# Altium integrated library Analog Devices Temperature Sensors.IntLib: 271 symbols (part 12 of 14)
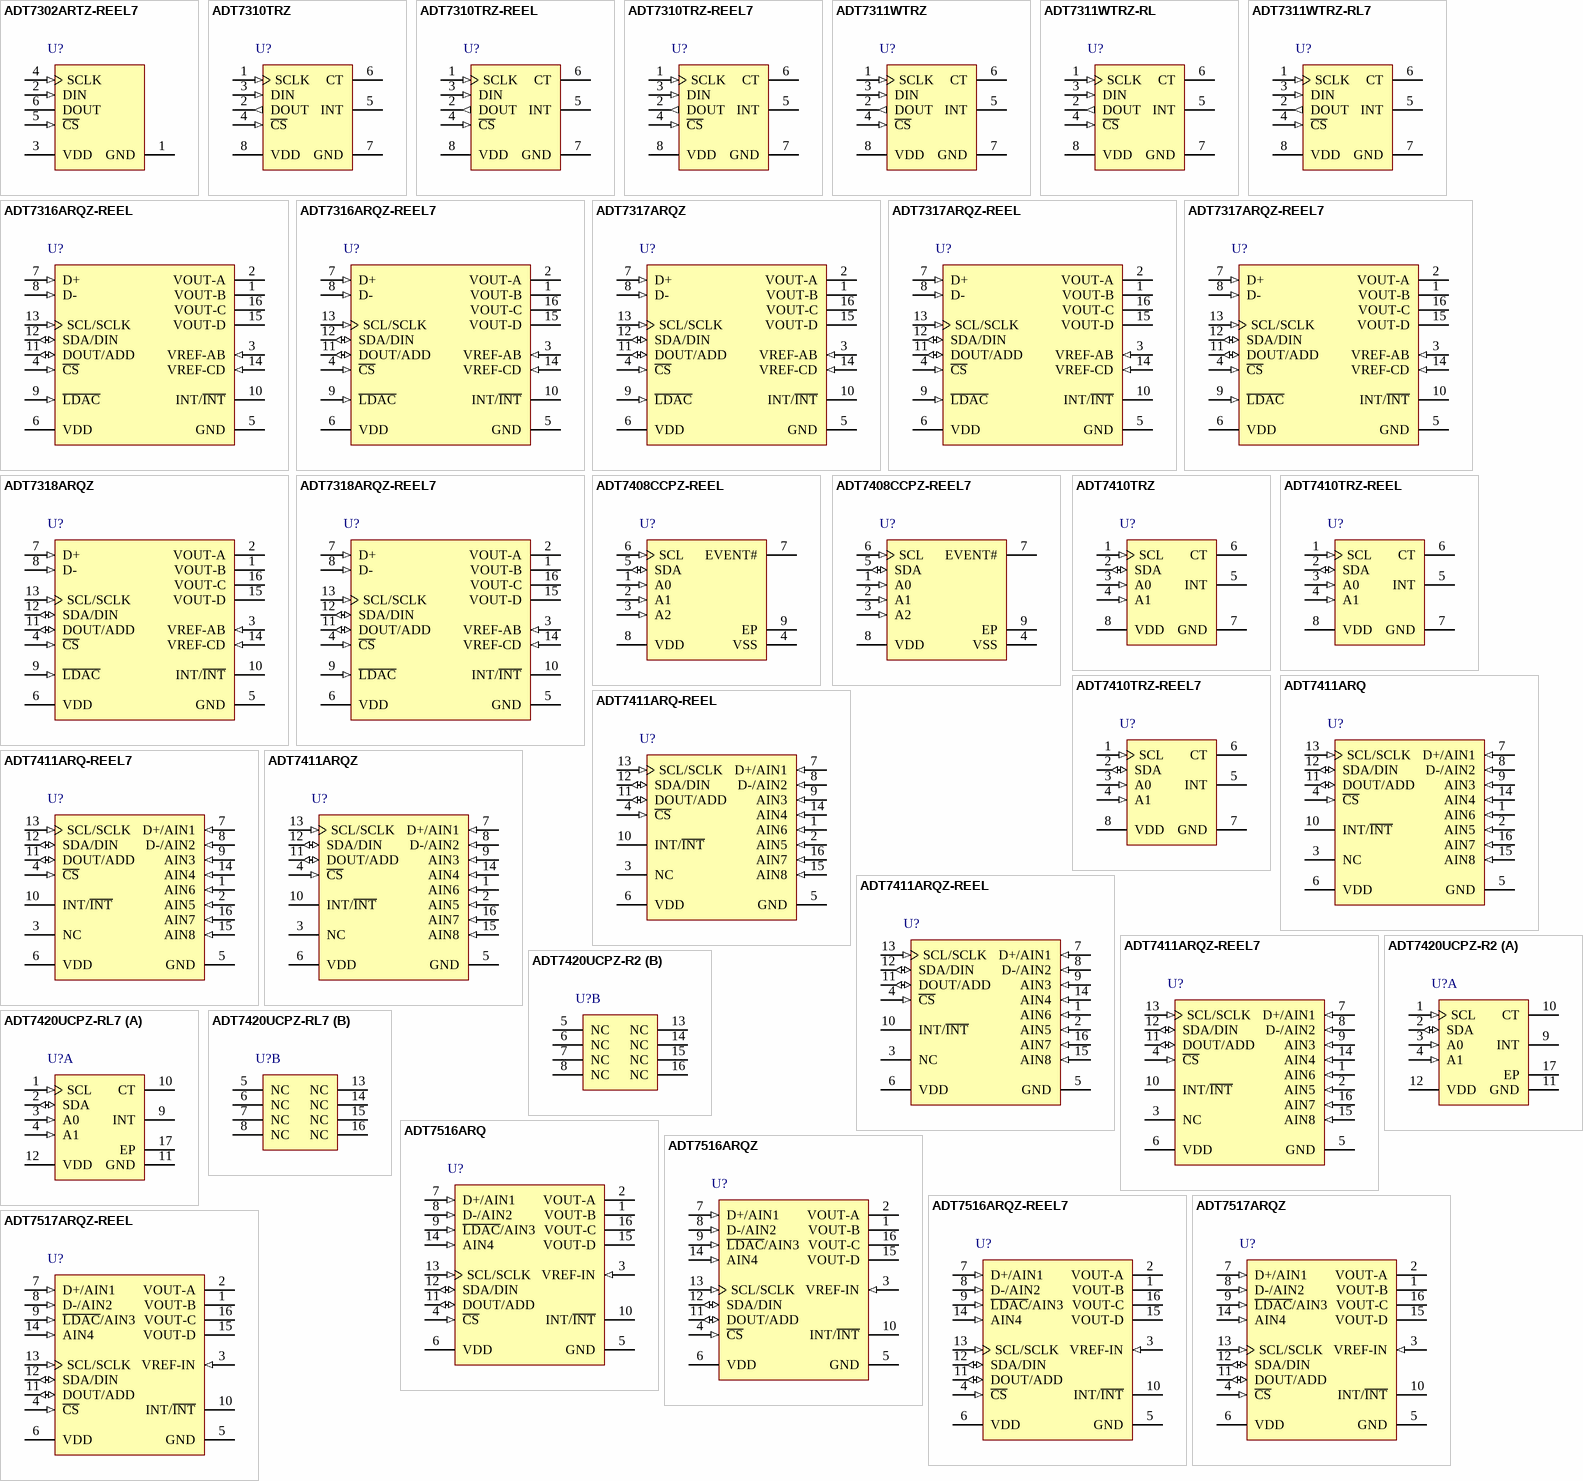
[diagram p18: symbols ADT7302ARTZ-REEL7 to ADT7517ARQZ-REEL]

## ADT7516ARQZ
designator U?
SPI / I2C Compatible Temperature Sensor with 4-Channel ADC and Quad Voltage Output, 2.7 to 5.5 V Supply, Industrial, 16-pin SOP (RQ-16), Tube; Manufacturer: Analog Devices; PartNumber: ADT7516ARQZ; #_ADC_channels: 4; DatasheetVersion: Rev. B; PackageVersion: 08/2005; PackageReference: RQ-16; PackageDescription: 16-Pin Shrink Small Outline Package, Body 4.9 x 3.9 mm, Pitch 0.64 mm; Supplier 1: Digi-Key; Supplier Part Number 1: ADT7516ARQZ-ND; Supplier 2: Farnell; Supplier Part Number 2: 1438683; Supplier 3: Newark; Supplier Part Number 3: 59K3114; Supplier 4: Mouser; Supplier Part Number 4: 584-ADT7516ARQZ; #_DAC_channels: 4; Packing: Tube; Supply Voltage Range: 2.7 to 5.5 V; Mounting Technology: Surface Mount; Code_JEDEC: MO-137-AB; ComponentLink1Description: Manufacturer URL; ComponentLink1URL: http://www.analog.com/en/index.html; ComponentLink2Description: Datasheet; ComponentLink2URL: http://www.analog.com/static/imported-files/data_sheets/ADT7516_7517_7519.pdf; ComponentLink3Description: Package Specification; ComponentLink3URL: http://www.analog.com/static/imported-files/packages/5595549651201762937RQ_16.pdf; ComponentLink4Description: Product URL; ComponentLink4URL: http://www.analog.com/en/mems-sensors/digital-temperature-sensors/adt7516/products/product.html
footprint ADI-RQ-16_N (SOP, 16-Leads, Body 4.9x3.9mm, Pitch 0.64mm, IPC Medium Density)
footprint ADI-RQ-16_L (SOP, 16-Leads, Body 4.9x3.9mm, Pitch 0.64mm, IPC High Density)
footprint ADI-RQ-16_M (SOP, 16-Leads, Body 4.9x3.9mm, Pitch 0.64mm, IPC Low Density)
pins: 1 VOUT-B (hiz) "Buffered Analog Output Voltage from DAC B. The output amplifier has rail-to-rail operation.", 2 VOUT-A (hiz) "Buffered Analog Output Voltage from DAC A. The output amplifier has rail-to-rail operation.", 3 VREF-IN (in) "Reference Input Pin for All Four DACs. This input is buffered and has an input range from 1 V to VDD.", 4 ~{CS} (in) "SPI Active Low Control Input. This is the frame synchronization signal for the input data. When C\S\ goes low, it enables the input register, and data is transferred in on the rising edges and out on the falling edges of the (See Datasheet)", 5 GND (power) "Ground Reference Point. Ground reference point for all circuitry on the part. Analog and digital ground.", 6 VDD (power) "Positive Supply Voltage, 2.7 V to 5.5 V. The supply should be decoupled to ground.", 7 D+/AIN1 (in), 8 D-/AIN2 (in), 9 ~{LDAC}/AIN3 (in), 10 INT/~{INT} (oc), 11 DOUT/ADD (io), 12 SDA/DIN (io), 13 SCL/SCLK (in), 14 AIN4 (in) "Analog Input. Single-ended analog input channel. Input range is 0 V to 2.28 V or 0 V to VDD.", 15 VOUT-D (hiz) "Buffered Analog Output Voltage from DAC D. The output amplifier has rail-to-rail operation.", 16 VOUT-C (hiz) "Buffered Analog Output Voltage from DAC C. The output amplifier has rail-to-rail operation."

## ADT7516ARQZ-REEL7
designator U?
SPI / I2C Compatible Temperature Sensor with 4-Channel ADC and Quad Voltage Output, 2.7 to 5.5 V Supply, Industrial, 16-pin SOP (RQ-16), Reel; Manufacturer: Analog Devices; PartNumber: ADT7516ARQZ-REEL7; #_ADC_channels: 4; DatasheetVersion: Rev. B; PackageVersion: 08/2005; PackageReference: RQ-16; PackageDescription: 16-Pin Shrink Small Outline Package, Body 4.9 x 3.9 mm, Pitch 0.64 mm; Supplier 1: Digi-Key; Supplier Part Number 1: ADT7516ARQZ-REEL7-ND; Supplier 2: Newark; Supplier Part Number 2: 59K3116; Supplier 3: Mouser; Supplier Part Number 3: 584-ADT7516ARQZ-R7; #_DAC_channels: 4; Packing: Reel; Supply Voltage Range: 2.7 to 5.5 V; Mounting Technology: Surface Mount; Code_JEDEC: MO-137-AB; ComponentLink1Description: Manufacturer URL; ComponentLink1URL: http://www.analog.com/en/index.html; ComponentLink2Description: Datasheet; ComponentLink2URL: http://www.analog.com/static/imported-files/data_sheets/ADT7516_7517_7519.pdf; ComponentLink3Description: Package Specification; ComponentLink3URL: http://www.analog.com/static/imported-files/packages/5595549651201762937RQ_16.pdf; ComponentLink4Description: Product URL; ComponentLink4URL: http://www.analog.com/en/mems-sensors/digital-temperature-sensors/adt7516/products/product.html
footprint ADI-RQ-16_N (SOP, 16-Leads, Body 4.9x3.9mm, Pitch 0.64mm, IPC Medium Density)
footprint ADI-RQ-16_L (SOP, 16-Leads, Body 4.9x3.9mm, Pitch 0.64mm, IPC High Density)
footprint ADI-RQ-16_M (SOP, 16-Leads, Body 4.9x3.9mm, Pitch 0.64mm, IPC Low Density)
pins: 1 VOUT-B (hiz) "Buffered Analog Output Voltage from DAC B. The output amplifier has rail-to-rail operation.", 2 VOUT-A (hiz) "Buffered Analog Output Voltage from DAC A. The output amplifier has rail-to-rail operation.", 3 VREF-IN (in) "Reference Input Pin for All Four DACs. This input is buffered and has an input range from 1 V to VDD.", 4 ~{CS} (in) "SPI Active Low Control Input. This is the frame synchronization signal for the input data. When C\S\ goes low, it enables the input register, and data is transferred in on the rising edges and out on the falling edges of the (See Datasheet)", 5 GND (power) "Ground Reference Point. Ground reference point for all circuitry on the part. Analog and digital ground.", 6 VDD (power) "Positive Supply Voltage, 2.7 V to 5.5 V. The supply should be decoupled to ground.", 7 D+/AIN1 (in), 8 D-/AIN2 (in), 9 ~{LDAC}/AIN3 (in), 10 INT/~{INT} (oc), 11 DOUT/ADD (io), 12 SDA/DIN (io), 13 SCL/SCLK (in), 14 AIN4 (in) "Analog Input. Single-ended analog input channel. Input range is 0 V to 2.28 V or 0 V to VDD.", 15 VOUT-D (hiz) "Buffered Analog Output Voltage from DAC D. The output amplifier has rail-to-rail operation.", 16 VOUT-C (hiz) "Buffered Analog Output Voltage from DAC C. The output amplifier has rail-to-rail operation."

## ADT7517ARQZ
designator U?
SPI / I2C Compatible Temperature Sensor with 4-Channel ADC and Quad Voltage Output, 2.7 to 5.5 V Supply, Industrial, 16-pin SOP (RQ-16), Tube; Manufacturer: Analog Devices; PartNumber: ADT7517ARQZ; #_ADC_channels: 4; DatasheetVersion: Rev. B; PackageVersion: 08/2005; PackageReference: RQ-16; PackageDescription: 16-Pin Shrink Small Outline Package, Body 4.9 x 3.9 mm, Pitch 0.64 mm; Supplier 1: Digi-Key; Supplier Part Number 1: ADT7517ARQZ-ND; Supplier 2: Mouser; Supplier Part Number 2: N/A; #_DAC_channels: 4; Packing: Tube; Supply Voltage Range: 2.7 to 5.5 V; Mounting Technology: Surface Mount; Code_JEDEC: MO-137-AB; ComponentLink1Description: Manufacturer URL; ComponentLink1URL: http://www.analog.com/en/index.html; ComponentLink2Description: Datasheet; ComponentLink2URL: http://www.analog.com/static/imported-files/data_sheets/ADT7516_7517_7519.pdf; ComponentLink3Description: Package Specification; ComponentLink3URL: http://www.analog.com/static/imported-files/packages/5595549651201762937RQ_16.pdf; ComponentLink4Description: Product URL; ComponentLink4URL: http://www.analog.com/en/mems-sensors/digital-temperature-sensors/adt7517/products/product.html
footprint ADI-RQ-16_N (SOP, 16-Leads, Body 4.9x3.9mm, Pitch 0.64mm, IPC Medium Density)
footprint ADI-RQ-16_L (SOP, 16-Leads, Body 4.9x3.9mm, Pitch 0.64mm, IPC High Density)
footprint ADI-RQ-16_M (SOP, 16-Leads, Body 4.9x3.9mm, Pitch 0.64mm, IPC Low Density)
pins: 1 VOUT-B (hiz) "Buffered Analog Output Voltage from DAC B. The output amplifier has rail-to-rail operation.", 2 VOUT-A (hiz) "Buffered Analog Output Voltage from DAC A. The output amplifier has rail-to-rail operation.", 3 VREF-IN (in) "Reference Input Pin for All Four DACs. This input is buffered and has an input range from 1 V to VDD.", 4 ~{CS} (in) "SPI Active Low Control Input. This is the frame synchronization signal for the input data. When C\S\ goes low, it enables the input register, and data is transferred in on the rising edges and out on the falling edges of the (See Datasheet)", 5 GND (power) "Ground Reference Point. Ground reference point for all circuitry on the part. Analog and digital ground.", 6 VDD (power) "Positive Supply Voltage, 2.7 V to 5.5 V. The supply should be decoupled to ground.", 7 D+/AIN1 (in), 8 D-/AIN2 (in), 9 ~{LDAC}/AIN3 (in), 10 INT/~{INT} (oc), 11 DOUT/ADD (io), 12 SDA/DIN (io), 13 SCL/SCLK (in), 14 AIN4 (in) "Analog Input. Single-ended analog input channel. Input range is 0 V to 2.28 V or 0 V to VDD.", 15 VOUT-D (hiz) "Buffered Analog Output Voltage from DAC D. The output amplifier has rail-to-rail operation.", 16 VOUT-C (hiz) "Buffered Analog Output Voltage from DAC C. The output amplifier has rail-to-rail operation."

## ADT7517ARQZ-REEL
designator U?
SPI / I2C Compatible Temperature Sensor with 4-Channel ADC and Quad Voltage Output, 2.7 to 5.5 V Supply, Industrial, 16-pin SOP (RQ-16), Reel; Manufacturer: Analog Devices; PartNumber: ADT7517ARQZ-REEL; #_ADC_channels: 4; DatasheetVersion: Rev. B; PackageVersion: 08/2005; PackageReference: RQ-16; PackageDescription: 16-Pin Shrink Small Outline Package, Body 4.9 x 3.9 mm, Pitch 0.64 mm; Supplier 1: Digi-Key; Supplier Part Number 1: ADT7517ARQZ-REEL-ND; Supplier 2: Mouser; Supplier Part Number 2: N/A; #_DAC_channels: 4; Packing: Reel; Supply Voltage Range: 2.7 to 5.5 V; Mounting Technology: Surface Mount; Code_JEDEC: MO-137-AB; ComponentLink1Description: Manufacturer URL; ComponentLink1URL: http://www.analog.com/en/index.html; ComponentLink2Description: Datasheet; ComponentLink2URL: http://www.analog.com/static/imported-files/data_sheets/ADT7516_7517_7519.pdf; ComponentLink3Description: Package Specification; ComponentLink3URL: http://www.analog.com/static/imported-files/packages/5595549651201762937RQ_16.pdf; ComponentLink4Description: Product URL; ComponentLink4URL: http://www.analog.com/en/mems-sensors/digital-temperature-sensors/adt7517/products/product.html
footprint ADI-RQ-16_N (SOP, 16-Leads, Body 4.9x3.9mm, Pitch 0.64mm, IPC Medium Density)
footprint ADI-RQ-16_L (SOP, 16-Leads, Body 4.9x3.9mm, Pitch 0.64mm, IPC High Density)
footprint ADI-RQ-16_M (SOP, 16-Leads, Body 4.9x3.9mm, Pitch 0.64mm, IPC Low Density)
pins: 1 VOUT-B (hiz) "Buffered Analog Output Voltage from DAC B. The output amplifier has rail-to-rail operation.", 2 VOUT-A (hiz) "Buffered Analog Output Voltage from DAC A. The output amplifier has rail-to-rail operation.", 3 VREF-IN (in) "Reference Input Pin for All Four DACs. This input is buffered and has an input range from 1 V to VDD.", 4 ~{CS} (in) "SPI Active Low Control Input. This is the frame synchronization signal for the input data. When C\S\ goes low, it enables the input register, and data is transferred in on the rising edges and out on the falling edges of the (See Datasheet)", 5 GND (power) "Ground Reference Point. Ground reference point for all circuitry on the part. Analog and digital ground.", 6 VDD (power) "Positive Supply Voltage, 2.7 V to 5.5 V. The supply should be decoupled to ground.", 7 D+/AIN1 (in), 8 D-/AIN2 (in), 9 ~{LDAC}/AIN3 (in), 10 INT/~{INT} (oc), 11 DOUT/ADD (io), 12 SDA/DIN (io), 13 SCL/SCLK (in), 14 AIN4 (in) "Analog Input. Single-ended analog input channel. Input range is 0 V to 2.28 V or 0 V to VDD.", 15 VOUT-D (hiz) "Buffered Analog Output Voltage from DAC D. The output amplifier has rail-to-rail operation.", 16 VOUT-C (hiz) "Buffered Analog Output Voltage from DAC C. The output amplifier has rail-to-rail operation."

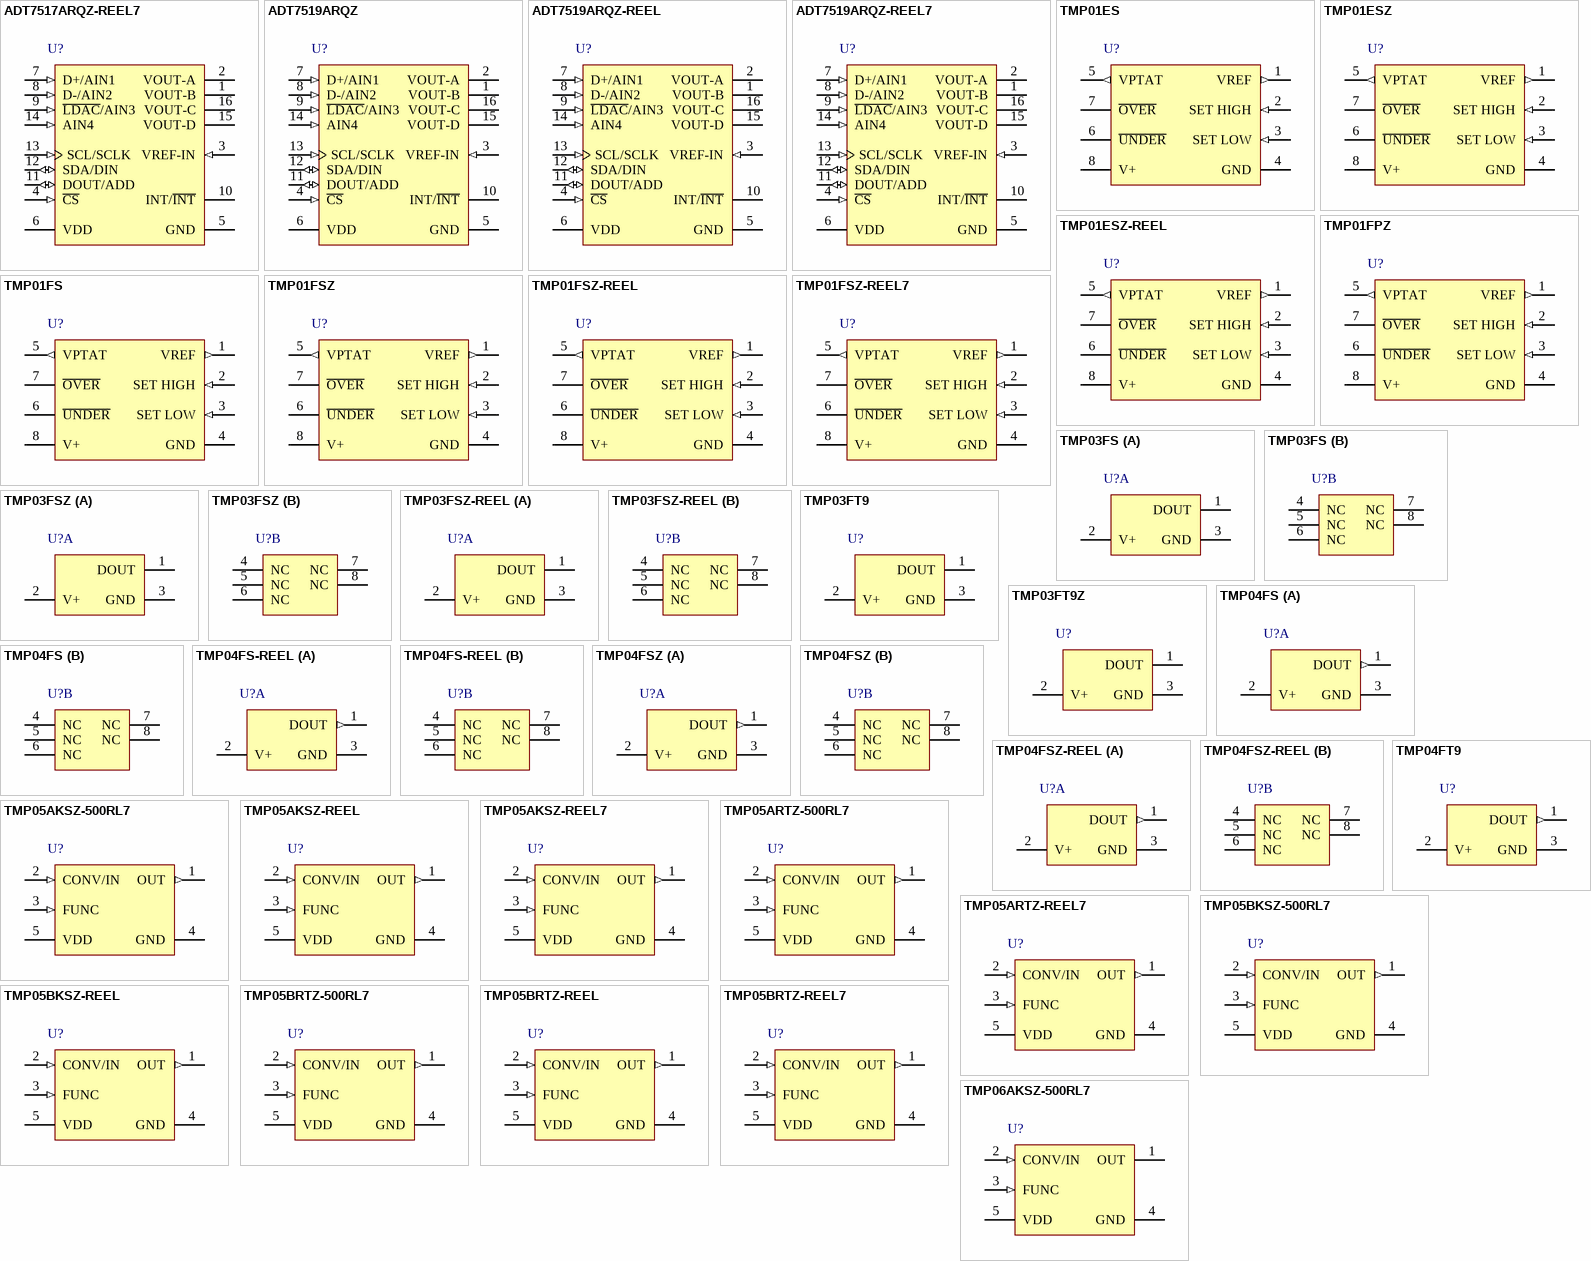
[diagram p6: symbols ADT7517ARQZ-REEL7 to TMP06AKSZ-500RL7]

## ADT7517ARQZ-REEL7
designator U?
SPI / I2C Compatible Temperature Sensor with 4-Channel ADC and Quad Voltage Output, 2.7 to 5.5 V Supply, Industrial, 16-pin SOP (RQ-16), Reel; Manufacturer: Analog Devices; PartNumber: ADT7517ARQZ-REEL7; #_ADC_channels: 4; DatasheetVersion: Rev. B; PackageVersion: 08/2005; PackageReference: RQ-16; PackageDescription: 16-Pin Shrink Small Outline Package, Body 4.9 x 3.9 mm, Pitch 0.64 mm; Supplier 1: Digi-Key; Supplier Part Number 1: ADT7517ARQZ-REEL7-ND; Supplier 2: Mouser; Supplier Part Number 2: N/A; #_DAC_channels: 4; Packing: Reel; Supply Voltage Range: 2.7 to 5.5 V; Mounting Technology: Surface Mount; Code_JEDEC: MO-137-AB; ComponentLink1Description: Manufacturer URL; ComponentLink1URL: http://www.analog.com/en/index.html; ComponentLink2Description: Datasheet; ComponentLink2URL: http://www.analog.com/static/imported-files/data_sheets/ADT7516_7517_7519.pdf; ComponentLink3Description: Package Specification; ComponentLink3URL: http://www.analog.com/static/imported-files/packages/5595549651201762937RQ_16.pdf; ComponentLink4Description: Product URL; ComponentLink4URL: http://www.analog.com/en/mems-sensors/digital-temperature-sensors/adt7517/products/product.html
footprint ADI-RQ-16_N (SOP, 16-Leads, Body 4.9x3.9mm, Pitch 0.64mm, IPC Medium Density)
footprint ADI-RQ-16_L (SOP, 16-Leads, Body 4.9x3.9mm, Pitch 0.64mm, IPC High Density)
footprint ADI-RQ-16_M (SOP, 16-Leads, Body 4.9x3.9mm, Pitch 0.64mm, IPC Low Density)
pins: 1 VOUT-B (hiz) "Buffered Analog Output Voltage from DAC B. The output amplifier has rail-to-rail operation.", 2 VOUT-A (hiz) "Buffered Analog Output Voltage from DAC A. The output amplifier has rail-to-rail operation.", 3 VREF-IN (in) "Reference Input Pin for All Four DACs. This input is buffered and has an input range from 1 V to VDD.", 4 ~{CS} (in) "SPI Active Low Control Input. This is the frame synchronization signal for the input data. When C\S\ goes low, it enables the input register, and data is transferred in on the rising edges and out on the falling edges of the (See Datasheet)", 5 GND (power) "Ground Reference Point. Ground reference point for all circuitry on the part. Analog and digital ground.", 6 VDD (power) "Positive Supply Voltage, 2.7 V to 5.5 V. The supply should be decoupled to ground.", 7 D+/AIN1 (in), 8 D-/AIN2 (in), 9 ~{LDAC}/AIN3 (in), 10 INT/~{INT} (oc), 11 DOUT/ADD (io), 12 SDA/DIN (io), 13 SCL/SCLK (in), 14 AIN4 (in) "Analog Input. Single-ended analog input channel. Input range is 0 V to 2.28 V or 0 V to VDD.", 15 VOUT-D (hiz) "Buffered Analog Output Voltage from DAC D. The output amplifier has rail-to-rail operation.", 16 VOUT-C (hiz) "Buffered Analog Output Voltage from DAC C. The output amplifier has rail-to-rail operation."

## ADT7519ARQZ
designator U?
SPI / I2C Compatible Temperature Sensor with 4-Channel ADC and Quad Voltage Output, 2.7 to 5.5 V Supply, Industrial, 16-pin SOP (RQ-16), Tube; Manufacturer: Analog Devices; PartNumber: ADT7519ARQZ; #_ADC_channels: 4; DatasheetVersion: Rev. B; PackageVersion: 08/2005; PackageReference: RQ-16; PackageDescription: 16-Pin Shrink Small Outline Package, Body 4.9 x 3.9 mm, Pitch 0.64 mm; Supplier 1: Digi-Key; Supplier Part Number 1: ADT7519ARQZ-ND; Supplier 2: Mouser; Supplier Part Number 2: N/A; #_DAC_channels: 4; Packing: Tube; Supply Voltage Range: 2.7 to 5.5 V; Mounting Technology: Surface Mount; Code_JEDEC: MO-137-AB; ComponentLink1Description: Manufacturer URL; ComponentLink1URL: http://www.analog.com/en/index.html; ComponentLink2Description: Datasheet; ComponentLink2URL: http://www.analog.com/static/imported-files/data_sheets/ADT7516_7517_7519.pdf; ComponentLink3Description: Package Specification; ComponentLink3URL: http://www.analog.com/static/imported-files/packages/5595549651201762937RQ_16.pdf; ComponentLink4Description: Product URL; ComponentLink4URL: http://www.analog.com/en/mems-sensors/digital-temperature-sensors/adt7519/products/product.html
footprint ADI-RQ-16_N (SOP, 16-Leads, Body 4.9x3.9mm, Pitch 0.64mm, IPC Medium Density)
footprint ADI-RQ-16_L (SOP, 16-Leads, Body 4.9x3.9mm, Pitch 0.64mm, IPC High Density)
footprint ADI-RQ-16_M (SOP, 16-Leads, Body 4.9x3.9mm, Pitch 0.64mm, IPC Low Density)
pins: 1 VOUT-B (hiz) "Buffered Analog Output Voltage from DAC B. The output amplifier has rail-to-rail operation.", 2 VOUT-A (hiz) "Buffered Analog Output Voltage from DAC A. The output amplifier has rail-to-rail operation.", 3 VREF-IN (in) "Reference Input Pin for All Four DACs. This input is buffered and has an input range from 1 V to VDD.", 4 ~{CS} (in) "SPI Active Low Control Input. This is the frame synchronization signal for the input data. When C\S\ goes low, it enables the input register, and data is transferred in on the rising edges and out on the falling edges of the (See Datasheet)", 5 GND (power) "Ground Reference Point. Ground reference point for all circuitry on the part. Analog and digital ground.", 6 VDD (power) "Positive Supply Voltage, 2.7 V to 5.5 V. The supply should be decoupled to ground.", 7 D+/AIN1 (in), 8 D-/AIN2 (in), 9 ~{LDAC}/AIN3 (in), 10 INT/~{INT} (oc), 11 DOUT/ADD (io), 12 SDA/DIN (io), 13 SCL/SCLK (in), 14 AIN4 (in) "Analog Input. Single-ended analog input channel. Input range is 0 V to 2.28 V or 0 V to VDD.", 15 VOUT-D (hiz) "Buffered Analog Output Voltage from DAC D. The output amplifier has rail-to-rail operation.", 16 VOUT-C (hiz) "Buffered Analog Output Voltage from DAC C. The output amplifier has rail-to-rail operation."

## ADT7519ARQZ-REEL
designator U?
SPI / I2C Compatible Temperature Sensor with 4-Channel ADC and Quad Voltage Output, 2.7 to 5.5 V Supply, Industrial, 16-pin SOP (RQ-16), Reel; Manufacturer: Analog Devices; PartNumber: ADT7519ARQZ-REEL; #_ADC_channels: 4; DatasheetVersion: Rev. B; PackageVersion: 08/2005; PackageReference: RQ-16; PackageDescription: 16-Pin Shrink Small Outline Package, Body 4.9 x 3.9 mm, Pitch 0.64 mm; Supplier 1: Digi-Key; Supplier Part Number 1: ADT7519ARQZ-REEL-ND; Supplier 2: Mouser; Supplier Part Number 2: N/A; #_DAC_channels: 4; Packing: Reel; Supply Voltage Range: 2.7 to 5.5 V; Mounting Technology: Surface Mount; Code_JEDEC: MO-137-AB; ComponentLink1Description: Manufacturer URL; ComponentLink1URL: http://www.analog.com/en/index.html; ComponentLink2Description: Datasheet; ComponentLink2URL: http://www.analog.com/static/imported-files/data_sheets/ADT7516_7517_7519.pdf; ComponentLink3Description: Package Specification; ComponentLink3URL: http://www.analog.com/static/imported-files/packages/5595549651201762937RQ_16.pdf; ComponentLink4Description: Product URL; ComponentLink4URL: http://www.analog.com/en/mems-sensors/digital-temperature-sensors/adt7519/products/product.html
footprint ADI-RQ-16_N (SOP, 16-Leads, Body 4.9x3.9mm, Pitch 0.64mm, IPC Medium Density)
footprint ADI-RQ-16_L (SOP, 16-Leads, Body 4.9x3.9mm, Pitch 0.64mm, IPC High Density)
footprint ADI-RQ-16_M (SOP, 16-Leads, Body 4.9x3.9mm, Pitch 0.64mm, IPC Low Density)
pins: 1 VOUT-B (hiz) "Buffered Analog Output Voltage from DAC B. The output amplifier has rail-to-rail operation.", 2 VOUT-A (hiz) "Buffered Analog Output Voltage from DAC A. The output amplifier has rail-to-rail operation.", 3 VREF-IN (in) "Reference Input Pin for All Four DACs. This input is buffered and has an input range from 1 V to VDD.", 4 ~{CS} (in) "SPI Active Low Control Input. This is the frame synchronization signal for the input data. When C\S\ goes low, it enables the input register, and data is transferred in on the rising edges and out on the falling edges of the (See Datasheet)", 5 GND (power) "Ground Reference Point. Ground reference point for all circuitry on the part. Analog and digital ground.", 6 VDD (power) "Positive Supply Voltage, 2.7 V to 5.5 V. The supply should be decoupled to ground.", 7 D+/AIN1 (in), 8 D-/AIN2 (in), 9 ~{LDAC}/AIN3 (in), 10 INT/~{INT} (oc), 11 DOUT/ADD (io), 12 SDA/DIN (io), 13 SCL/SCLK (in), 14 AIN4 (in) "Analog Input. Single-ended analog input channel. Input range is 0 V to 2.28 V or 0 V to VDD.", 15 VOUT-D (hiz) "Buffered Analog Output Voltage from DAC D. The output amplifier has rail-to-rail operation.", 16 VOUT-C (hiz) "Buffered Analog Output Voltage from DAC C. The output amplifier has rail-to-rail operation."

## ADT7519ARQZ-REEL7
designator U?
SPI / I2C Compatible Temperature Sensor with 4-Channel ADC and Quad Voltage Output, 2.7 to 5.5 V Supply, Industrial, 16-pin SOP (RQ-16), Reel; Manufacturer: Analog Devices; PartNumber: ADT7519ARQZ-REEL7; #_ADC_channels: 4; DatasheetVersion: Rev. B; PackageVersion: 08/2005; PackageReference: RQ-16; PackageDescription: 16-Pin Shrink Small Outline Package, Body 4.9 x 3.9 mm, Pitch 0.64 mm; Supplier 1: Digi-Key; Supplier Part Number 1: ADT7519ARQZ-REEL7-ND; Supplier 2: Mouser; Supplier Part Number 2: N/A; #_DAC_channels: 4; Packing: Reel; Supply Voltage Range: 2.7 to 5.5 V; Mounting Technology: Surface Mount; Code_JEDEC: MO-137-AB; ComponentLink1Description: Manufacturer URL; ComponentLink1URL: http://www.analog.com/en/index.html; ComponentLink2Description: Datasheet; ComponentLink2URL: http://www.analog.com/static/imported-files/data_sheets/ADT7516_7517_7519.pdf; ComponentLink3Description: Package Specification; ComponentLink3URL: http://www.analog.com/static/imported-files/packages/5595549651201762937RQ_16.pdf; ComponentLink4Description: Product URL; ComponentLink4URL: http://www.analog.com/en/mems-sensors/digital-temperature-sensors/adt7519/products/product.html
footprint ADI-RQ-16_N (SOP, 16-Leads, Body 4.9x3.9mm, Pitch 0.64mm, IPC Medium Density)
footprint ADI-RQ-16_L (SOP, 16-Leads, Body 4.9x3.9mm, Pitch 0.64mm, IPC High Density)
footprint ADI-RQ-16_M (SOP, 16-Leads, Body 4.9x3.9mm, Pitch 0.64mm, IPC Low Density)
pins: 1 VOUT-B (hiz) "Buffered Analog Output Voltage from DAC B. The output amplifier has rail-to-rail operation.", 2 VOUT-A (hiz) "Buffered Analog Output Voltage from DAC A. The output amplifier has rail-to-rail operation.", 3 VREF-IN (in) "Reference Input Pin for All Four DACs. This input is buffered and has an input range from 1 V to VDD.", 4 ~{CS} (in) "SPI Active Low Control Input. This is the frame synchronization signal for the input data. When C\S\ goes low, it enables the input register, and data is transferred in on the rising edges and out on the falling edges of the (See Datasheet)", 5 GND (power) "Ground Reference Point. Ground reference point for all circuitry on the part. Analog and digital ground.", 6 VDD (power) "Positive Supply Voltage, 2.7 V to 5.5 V. The supply should be decoupled to ground.", 7 D+/AIN1 (in), 8 D-/AIN2 (in), 9 ~{LDAC}/AIN3 (in), 10 INT/~{INT} (oc), 11 DOUT/ADD (io), 12 SDA/DIN (io), 13 SCL/SCLK (in), 14 AIN4 (in) "Analog Input. Single-ended analog input channel. Input range is 0 V to 2.28 V or 0 V to VDD.", 15 VOUT-D (hiz) "Buffered Analog Output Voltage from DAC D. The output amplifier has rail-to-rail operation.", 16 VOUT-C (hiz) "Buffered Analog Output Voltage from DAC C. The output amplifier has rail-to-rail operation."

## TMP01ES
designator U?
Low Power, Programmable Temperature Controller, 4.5 to 13.2 V Supply, Industrial, 8-pin SOIC (R-8), Tube; Manufacturer: Analog Devices; PartNumber: TMP01ES; Sensor Output: +5 mV/degreesK, Thermostatic Switch; Temp Range(s): -40 to +85 degC; DatasheetVersion: Rev. E; PackageVersion: 060506-A, 06/2006; PackageReference: R-8; PackageDescription: 8-Pin Standard Small Outline Package, Body 4.9 x 3.9 mm, Pitch 1.27 mm; Supplier 1: Digi-Key; Supplier Part Number 1: TMP01ES-ND; Supplier 2: Newark; Supplier Part Number 2: 05F9079; Supplier 3: Mouser; Supplier Part Number 3: 584-TMP01ES; Packing: Tube; Supply Voltage Range: 4.5 to 13.2 V; Mounting Technology: Surface Mount; Code_JEDEC: MS-012-AA; ComponentLink1Description: Manufacturer URL; ComponentLink1URL: http://www.analog.com/en/index.html; ComponentLink2Description: Datasheet; ComponentLink2URL: http://www.analog.com/static/imported-files/data_sheets/TMP01.pdf; ComponentLink3Description: Package Specification; ComponentLink3URL: http://www.analog.com/static/imported-files/packages/PKG_PDF/SOIC_Narrow%20(R)/R_8.pdf; ComponentLink4Description: Product URL; ComponentLink4URL: http://www.analog.com/en/mems-sensors/digital-temperature-sensors/tmp01/products/product.html
footprint ADI-R-8_N (SOIC, 8-Leads, Body 4.9x3.9mm, Pitch 1.27mm, IPC Medium Density)
footprint ADI-R-8_L (SOIC, 8-Leads, Body 4.9x3.9mm, Pitch 1.27mm, IPC High Density)
footprint ADI-R-8_M (SOIC, 8-Leads, Body 4.9x3.9mm, Pitch 1.27mm, IPC Low Density)
pins: 1 VREF (out), 2 SET HIGH (in), 3 SET LOW (in), 4 GND (power), 5 VPTAT (out), 6 ~{UNDER} (oc), 7 ~{OVER} (oc), 8 V+ (power)

## TMP01ESZ
designator U?
Low Power, Programmable Temperature Controller, 4.5 to 13.2 V Supply, Industrial, 8-pin SOIC (R-8), Tube; Manufacturer: Analog Devices; PartNumber: TMP01ESZ; Sensor Output: +5 mV/degreesK, Thermostatic Switch; Temp Range(s): -40 to +85 degC; DatasheetVersion: Rev. E; PackageVersion: 060506-A, 06/2006; PackageReference: R-8; PackageDescription: 8-Pin Standard Small Outline Package, Body 4.9 x 3.9 mm, Pitch 1.27 mm; Supplier 1: Digi-Key; Supplier Part Number 1: TMP01ESZ-ND; Supplier 2: Farnell; Supplier Part Number 2: 2305760; Supplier 3: Newark; Supplier Part Number 3: 13M3224; Supplier 4: Mouser; Supplier Part Number 4: 584-TMP01ESZ; Packing: Tube; Supply Voltage Range: 4.5 to 13.2 V; Mounting Technology: Surface Mount; Code_JEDEC: MS-012-AA; ComponentLink1Description: Manufacturer URL; ComponentLink1URL: http://www.analog.com/en/index.html; ComponentLink2Description: Datasheet; ComponentLink2URL: http://www.analog.com/static/imported-files/data_sheets/TMP01.pdf; ComponentLink3Description: Package Specification; ComponentLink3URL: http://www.analog.com/static/imported-files/packages/PKG_PDF/SOIC_Narrow%20(R)/R_8.pdf; ComponentLink4Description: Product URL; ComponentLink4URL: http://www.analog.com/en/mems-sensors/digital-temperature-sensors/tmp01/products/product.html
footprint ADI-R-8_N (SOIC, 8-Leads, Body 4.9x3.9mm, Pitch 1.27mm, IPC Medium Density)
footprint ADI-R-8_L (SOIC, 8-Leads, Body 4.9x3.9mm, Pitch 1.27mm, IPC High Density)
footprint ADI-R-8_M (SOIC, 8-Leads, Body 4.9x3.9mm, Pitch 1.27mm, IPC Low Density)
pins: 1 VREF (out), 2 SET HIGH (in), 3 SET LOW (in), 4 GND (power), 5 VPTAT (out), 6 ~{UNDER} (oc), 7 ~{OVER} (oc), 8 V+ (power)

## TMP01ESZ-REEL
designator U?
Low Power, Programmable Temperature Controller, 4.5 to 13.2 V Supply, Industrial, 8-pin SOIC (R-8), Reel; Manufacturer: Analog Devices; PartNumber: TMP01ESZ-REEL; Sensor Output: +5 mV/degreesK, Thermostatic Switch; Temp Range(s): -40 to +85 degC; DatasheetVersion: Rev. E; PackageVersion: 060506-A, 06/2006; PackageReference: R-8; PackageDescription: 8-Pin Standard Small Outline Package, Body 4.9 x 3.9 mm, Pitch 1.27 mm; Supplier 1: Digi-Key; Supplier Part Number 1: TMP01ESZ-REEL-ND; Supplier 2: Newark; Supplier Part Number 2: 13M3225; Supplier 3: Mouser; Supplier Part Number 3: 584-TMP01ESZ-R; Packing: Reel; Supply Voltage Range: 4.5 to 13.2 V; Mounting Technology: Surface Mount; Code_JEDEC: MS-012-AA; ComponentLink1Description: Manufacturer URL; ComponentLink1URL: http://www.analog.com/en/index.html; ComponentLink2Description: Datasheet; ComponentLink2URL: http://www.analog.com/static/imported-files/data_sheets/TMP01.pdf; ComponentLink3Description: Package Specification; ComponentLink3URL: http://www.analog.com/static/imported-files/packages/PKG_PDF/SOIC_Narrow%20(R)/R_8.pdf; ComponentLink4Description: Product URL; ComponentLink4URL: http://www.analog.com/en/mems-sensors/digital-temperature-sensors/tmp01/products/product.html
footprint ADI-R-8_N (SOIC, 8-Leads, Body 4.9x3.9mm, Pitch 1.27mm, IPC Medium Density)
footprint ADI-R-8_L (SOIC, 8-Leads, Body 4.9x3.9mm, Pitch 1.27mm, IPC High Density)
footprint ADI-R-8_M (SOIC, 8-Leads, Body 4.9x3.9mm, Pitch 1.27mm, IPC Low Density)
pins: 1 VREF (out), 2 SET HIGH (in), 3 SET LOW (in), 4 GND (power), 5 VPTAT (out), 6 ~{UNDER} (oc), 7 ~{OVER} (oc), 8 V+ (power)

## TMP01FPZ
designator U?
Low Power, Programmable Temperature Controller, 4.5 to 13.2 V Supply, Industrial, 8-pin DIP (N-8), Tube; Manufacturer: Analog Devices; PartNumber: TMP01FPZ; Sensor Output: +5 mV/degreesK, Thermostatic Switch; Temp Range(s): -40 to +85 degC; DatasheetVersion: Rev. E; PackageVersion: 070606-A, 07/2006; PackageReference: N-8; PackageDescription: 8-Pin Plastic Dual In-Line Package, Row spacing 7.62 mm, Pitch 2.54 mm; Supplier 1: Digi-Key; Supplier Part Number 1: TMP01FPZ-ND; Supplier 2: Farnell; Supplier Part Number 2: 1079406; Supplier 3: Newark; Supplier Part Number 3: 59K9131; Supplier 4: Mouser; Supplier Part Number 4: 584-TMP01FPZ; Packing: Tube; Supply Voltage Range: 4.5 to 13.2 V; Mounting Technology: Through Hole; Code_JEDEC: MS-001; ComponentLink1Description: Manufacturer URL; ComponentLink1URL: http://www.analog.com/en/index.html; ComponentLink2Description: Datasheet; ComponentLink2URL: http://www.analog.com/static/imported-files/data_sheets/TMP01.pdf; ComponentLink3Description: Package Specification; ComponentLink3URL: http:/www.analog.com/static/imported-files/packages/PKG_PDF/PDIP(N)/N_8.pdf; ComponentLink4Description: Product URL; ComponentLink4URL: http://www.analog.com/en/mems-sensors/digital-temperature-sensors/tmp01/products/product.html
footprint ADI-N-8 (DIP, 8-Leads, Body 9.59x6.6mm, Pitch 2.54mm)
pins: 1 VREF (out), 2 SET HIGH (in), 3 SET LOW (in), 4 GND (power), 5 VPTAT (out), 6 ~{UNDER} (oc), 7 ~{OVER} (oc), 8 V+ (power)

## TMP01FS
designator U?
Low Power, Programmable Temperature Controller, 4.5 to 13.2 V Supply, Industrial, 8-pin SOIC (R-8), Tube; Manufacturer: Analog Devices; PartNumber: TMP01FS; Sensor Output: +5 mV/degreesK, Thermostatic Switch; Temp Range(s): -40 to +85 degC; DatasheetVersion: Rev. E; PackageVersion: 060506-A, 06/2006; PackageReference: R-8; PackageDescription: 8-Pin Standard Small Outline Package, Body 4.9 x 3.9 mm, Pitch 1.27 mm; Supplier 1: Digi-Key; Supplier Part Number 1: TMP01FS-ND; Supplier 2: Mouser; Supplier Part Number 2: 584-TMP01FS; Packing: Tube; Supply Voltage Range: 4.5 to 13.2 V; Mounting Technology: Surface Mount; Code_JEDEC: MS-012-AA; ComponentLink1Description: Manufacturer URL; ComponentLink1URL: http://www.analog.com/en/index.html; ComponentLink2Description: Datasheet; ComponentLink2URL: http://www.analog.com/static/imported-files/data_sheets/TMP01.pdf; ComponentLink3Description: Package Specification; ComponentLink3URL: http://www.analog.com/static/imported-files/packages/PKG_PDF/SOIC_Narrow%20(R)/R_8.pdf; ComponentLink4Description: Product URL; ComponentLink4URL: http://www.analog.com/en/mems-sensors/digital-temperature-sensors/tmp01/products/product.html
footprint ADI-R-8_N (SOIC, 8-Leads, Body 4.9x3.9mm, Pitch 1.27mm, IPC Medium Density)
footprint ADI-R-8_L (SOIC, 8-Leads, Body 4.9x3.9mm, Pitch 1.27mm, IPC High Density)
footprint ADI-R-8_M (SOIC, 8-Leads, Body 4.9x3.9mm, Pitch 1.27mm, IPC Low Density)
pins: 1 VREF (out), 2 SET HIGH (in), 3 SET LOW (in), 4 GND (power), 5 VPTAT (out), 6 ~{UNDER} (oc), 7 ~{OVER} (oc), 8 V+ (power)

## TMP01FSZ
designator U?
Low Power, Programmable Temperature Controller, 4.5 to 13.2 V Supply, Industrial, 8-pin SOIC (R-8), Tube; Manufacturer: Analog Devices; PartNumber: TMP01FSZ; Sensor Output: +5 mV/degreesK, Thermostatic Switch; Temp Range(s): -40 to +85 degC; DatasheetVersion: Rev. E; PackageVersion: 060506-A, 06/2006; PackageReference: R-8; PackageDescription: 8-Pin Standard Small Outline Package, Body 4.9 x 3.9 mm, Pitch 1.27 mm; Supplier 1: Digi-Key; Supplier Part Number 1: TMP01FSZ-ND; Supplier 2: Farnell; Supplier Part Number 2: 1079393; Supplier 3: Newark; Supplier Part Number 3: 96K2115; Supplier 4: Mouser; Supplier Part Number 4: 584-TMP01FSZ; Packing: Tube; Supply Voltage Range: 4.5 to 13.2 V; Mounting Technology: Surface Mount; Code_JEDEC: MS-012-AA; ComponentLink1Description: Manufacturer URL; ComponentLink1URL: http://www.analog.com/en/index.html; ComponentLink2Description: Datasheet; ComponentLink2URL: http://www.analog.com/static/imported-files/data_sheets/TMP01.pdf; ComponentLink3Description: Package Specification; ComponentLink3URL: http://www.analog.com/static/imported-files/packages/PKG_PDF/SOIC_Narrow%20(R)/R_8.pdf; ComponentLink4Description: Product URL; ComponentLink4URL: http://www.analog.com/en/mems-sensors/digital-temperature-sensors/tmp01/products/product.html
footprint ADI-R-8_N (SOIC, 8-Leads, Body 4.9x3.9mm, Pitch 1.27mm, IPC Medium Density)
footprint ADI-R-8_L (SOIC, 8-Leads, Body 4.9x3.9mm, Pitch 1.27mm, IPC High Density)
footprint ADI-R-8_M (SOIC, 8-Leads, Body 4.9x3.9mm, Pitch 1.27mm, IPC Low Density)
pins: 1 VREF (out), 2 SET HIGH (in), 3 SET LOW (in), 4 GND (power), 5 VPTAT (out), 6 ~{UNDER} (oc), 7 ~{OVER} (oc), 8 V+ (power)

## TMP01FSZ-REEL
designator U?
Low Power, Programmable Temperature Controller, 4.5 to 13.2 V Supply, Industrial, 8-pin SOIC (R-8), Reel; Manufacturer: Analog Devices; PartNumber: TMP01FSZ-REEL; Sensor Output: +5 mV/degreesK, Thermostatic Switch; Temp Range(s): -40 to +85 degC; DatasheetVersion: Rev. E; PackageVersion: 060506-A, 06/2006; PackageReference: R-8; PackageDescription: 8-Pin Standard Small Outline Package, Body 4.9 x 3.9 mm, Pitch 1.27 mm; Supplier 1: Digi-Key; Supplier Part Number 1: TMP01FSZ-REEL-ND; Supplier 2: Newark; Supplier Part Number 2: 13M3226; Supplier 3: Mouser; Supplier Part Number 3: 584-TMP01FSZ-R; Packing: Reel; Supply Voltage Range: 4.5 to 13.2 V; Mounting Technology: Surface Mount; Code_JEDEC: MS-012-AA; ComponentLink1Description: Manufacturer URL; ComponentLink1URL: http://www.analog.com/en/index.html; ComponentLink2Description: Datasheet; ComponentLink2URL: http://www.analog.com/static/imported-files/data_sheets/TMP01.pdf; ComponentLink3Description: Package Specification; ComponentLink3URL: http://www.analog.com/static/imported-files/packages/PKG_PDF/SOIC_Narrow%20(R)/R_8.pdf; ComponentLink4Description: Product URL; ComponentLink4URL: http://www.analog.com/en/mems-sensors/digital-temperature-sensors/tmp01/products/product.html
footprint ADI-R-8_N (SOIC, 8-Leads, Body 4.9x3.9mm, Pitch 1.27mm, IPC Medium Density)
footprint ADI-R-8_L (SOIC, 8-Leads, Body 4.9x3.9mm, Pitch 1.27mm, IPC High Density)
footprint ADI-R-8_M (SOIC, 8-Leads, Body 4.9x3.9mm, Pitch 1.27mm, IPC Low Density)
pins: 1 VREF (out), 2 SET HIGH (in), 3 SET LOW (in), 4 GND (power), 5 VPTAT (out), 6 ~{UNDER} (oc), 7 ~{OVER} (oc), 8 V+ (power)

## TMP01FSZ-REEL7
designator U?
Low Power, Programmable Temperature Controller, 4.5 to 13.2 V Supply, Industrial, 8-pin SOIC (R-8), Reel; Manufacturer: Analog Devices; PartNumber: TMP01FSZ-REEL7; Sensor Output: +5 mV/degreesK, Thermostatic Switch; Temp Range(s): -40 to +85 degC; DatasheetVersion: Rev. E; PackageVersion: 060506-A, 06/2006; PackageReference: R-8; PackageDescription: 8-Pin Standard Small Outline Package, Body 4.9 x 3.9 mm, Pitch 1.27 mm; Supplier 1: Digi-Key; Supplier Part Number 1: TMP01FSZ-REEL7TR-ND; Supplier 2: Digi-Key; Supplier Part Number 2: TMP01FSZ-REEL7CT-ND; Supplier 3: Digi-Key; Supplier Part Number 3: TMP01FSZ-REEL7DKR-ND; Supplier 4: Newark; Supplier Part Number 4: 13M3227; Supplier 5: Mouser; Supplier Part Number 5: 584-TMP01FSZ-R7; Packing: Reel; Supply Voltage Range: 4.5 to 13.2 V; Mounting Technology: Surface Mount; Code_JEDEC: MS-012-AA; ComponentLink1Description: Manufacturer URL; ComponentLink1URL: http://www.analog.com/en/index.html; ComponentLink2Description: Datasheet; ComponentLink2URL: http://www.analog.com/static/imported-files/data_sheets/TMP01.pdf; ComponentLink3Description: Package Specification; ComponentLink3URL: http://www.analog.com/static/imported-files/packages/PKG_PDF/SOIC_Narrow%20(R)/R_8.pdf; ComponentLink4Description: Product URL; ComponentLink4URL: http://www.analog.com/en/mems-sensors/digital-temperature-sensors/tmp01/products/product.html
footprint ADI-R-8_N (SOIC, 8-Leads, Body 4.9x3.9mm, Pitch 1.27mm, IPC Medium Density)
footprint ADI-R-8_L (SOIC, 8-Leads, Body 4.9x3.9mm, Pitch 1.27mm, IPC High Density)
footprint ADI-R-8_M (SOIC, 8-Leads, Body 4.9x3.9mm, Pitch 1.27mm, IPC Low Density)
pins: 1 VREF (out), 2 SET HIGH (in), 3 SET LOW (in), 4 GND (power), 5 VPTAT (out), 6 ~{UNDER} (oc), 7 ~{OVER} (oc), 8 V+ (power)

## TMP03FS
designator U?
Serial Digital Output Thermometers, 4.5 to 7 V Supply, 8-pin SOIC (R-8), Tube; Manufacturer: Analog Devices; PartNumber: TMP03FS; DatasheetVersion: Rev. A; PackageVersion: 060506-A, 06/2006; PackageReference: R-8; PackageDescription: 8-Pin Standard Small Outline Package, Body 4.9 x 3.9 mm, Pitch 1.27 mm; Supplier 1: Digi-Key; Supplier Part Number 1: TMP03FS-ND; Supplier 2: Mouser; Supplier Part Number 2: 584-TMP03FS; Packing: Tube; Supply Voltage Range: 4.5 to 7 V; Mounting Technology: Surface Mount; Code_JEDEC: MS-012-AA; ComponentLink1Description: Manufacturer URL; ComponentLink1URL: http://www.analog.com/en/index.html; ComponentLink2Description: Datasheet; ComponentLink2URL: http://www.analog.com/static/imported-files/data_sheets/TMP03_04.pdf; ComponentLink3Description: Package Specification; ComponentLink3URL: http://www.analog.com/static/imported-files/packages/PKG_PDF/SOIC_Narrow%20(R)/R_8.pdf; ComponentLink4Description: Product URL; ComponentLink4URL: http://www.analog.com/en/mems-sensors/digital-temperature-sensors/tmp03/products/product.html
footprint ADI-R-8_N (SOIC, 8-Leads, Body 4.9x3.9mm, Pitch 1.27mm, IPC Medium Density)
footprint ADI-R-8_L (SOIC, 8-Leads, Body 4.9x3.9mm, Pitch 1.27mm, IPC High Density)
footprint ADI-R-8_M (SOIC, 8-Leads, Body 4.9x3.9mm, Pitch 1.27mm, IPC Low Density)
part A pins: 1 DOUT (oc), 2 V+ (power), 3 GND (power)
part B pins: 4 NC "NO CONNECT", 5 NC "NO CONNECT", 6 NC "NO CONNECT", 7 NC "NO CONNECT", 8 NC "NO CONNECT"

## TMP03FSZ
designator U?
Serial Digital Output Thermometers, 4.5 to 7 V Supply, 8-pin SOIC (R-8), Tube; Manufacturer: Analog Devices; PartNumber: TMP03FSZ; DatasheetVersion: Rev. A; PackageVersion: 060506-A, 06/2006; PackageReference: R-8; PackageDescription: 8-Pin Standard Small Outline Package, Body 4.9 x 3.9 mm, Pitch 1.27 mm; Supplier 1: Digi-Key; Supplier Part Number 1: TMP03FSZ-ND; Supplier 2: Farnell; Supplier Part Number 2: 2377126; Supplier 3: Newark; Supplier Part Number 3: 23X9246; Supplier 4: Newark; Supplier Part Number 4: 59K9132; Supplier 5: Mouser; Supplier Part Number 5: 584-TMP03FSZ; Packing: Tube; Supply Voltage Range: 4.5 to 7 V; Mounting Technology: Surface Mount; Code_JEDEC: MS-012-AA; ComponentLink1Description: Manufacturer URL; ComponentLink1URL: http://www.analog.com/en/index.html; ComponentLink2Description: Datasheet; ComponentLink2URL: http://www.analog.com/static/imported-files/data_sheets/TMP03_04.pdf; ComponentLink3Description: Package Specification; ComponentLink3URL: http://www.analog.com/static/imported-files/packages/PKG_PDF/SOIC_Narrow%20(R)/R_8.pdf; ComponentLink4Description: Product URL; ComponentLink4URL: http://www.analog.com/en/mems-sensors/digital-temperature-sensors/tmp03/products/product.html
footprint ADI-R-8_N (SOIC, 8-Leads, Body 4.9x3.9mm, Pitch 1.27mm, IPC Medium Density)
footprint ADI-R-8_L (SOIC, 8-Leads, Body 4.9x3.9mm, Pitch 1.27mm, IPC High Density)
footprint ADI-R-8_M (SOIC, 8-Leads, Body 4.9x3.9mm, Pitch 1.27mm, IPC Low Density)
part A pins: 1 DOUT (oc), 2 V+ (power), 3 GND (power)
part B pins: 4 NC "NO CONNECT", 5 NC "NO CONNECT", 6 NC "NO CONNECT", 7 NC "NO CONNECT", 8 NC "NO CONNECT"

## TMP03FSZ-REEL
designator U?
Serial Digital Output Thermometers, 4.5 to 7 V Supply, 8-pin SOIC (R-8), Reel; Manufacturer: Analog Devices; PartNumber: TMP03FSZ-REEL; DatasheetVersion: Rev. A; PackageVersion: 060506-A, 06/2006; PackageReference: R-8; PackageDescription: 8-Pin Standard Small Outline Package, Body 4.9 x 3.9 mm, Pitch 1.27 mm; Supplier 1: Digi-Key; Supplier Part Number 1: TMP03FSZ-REEL-ND; Supplier 2: Newark; Supplier Part Number 2: 59K9133; Supplier 3: Mouser; Supplier Part Number 3: 584-TMP03FSZ-R; Packing: Reel; Supply Voltage Range: 4.5 to 7 V; Mounting Technology: Surface Mount; Code_JEDEC: MS-012-AA; ComponentLink1Description: Manufacturer URL; ComponentLink1URL: http://www.analog.com/en/index.html; ComponentLink2Description: Datasheet; ComponentLink2URL: http://www.analog.com/static/imported-files/data_sheets/TMP03_04.pdf; ComponentLink3Description: Package Specification; ComponentLink3URL: http://www.analog.com/static/imported-files/packages/PKG_PDF/SOIC_Narrow%20(R)/R_8.pdf; ComponentLink4Description: Product URL; ComponentLink4URL: http://www.analog.com/en/mems-sensors/digital-temperature-sensors/tmp03/products/product.html
footprint ADI-R-8_N (SOIC, 8-Leads, Body 4.9x3.9mm, Pitch 1.27mm, IPC Medium Density)
footprint ADI-R-8_L (SOIC, 8-Leads, Body 4.9x3.9mm, Pitch 1.27mm, IPC High Density)
footprint ADI-R-8_M (SOIC, 8-Leads, Body 4.9x3.9mm, Pitch 1.27mm, IPC Low Density)
part A pins: 1 DOUT (oc), 2 V+ (power), 3 GND (power)
part B pins: 4 NC "NO CONNECT", 5 NC "NO CONNECT", 6 NC "NO CONNECT", 7 NC "NO CONNECT", 8 NC "NO CONNECT"

## TMP03FT9
designator U?
Serial Digital Output Thermometers, 4.5 to 7 V Supply, Industrial, 3-pin TO92 (T-3), Tray; Manufacturer: Analog Devices; PartNumber: TMP03FT9; DatasheetVersion: Rev. A; PackageVersion: 042208-A, 04/2008; PackageReference: T-3; PackageDescription: 3-Pin Plastic Header-Style Package, 1.27 mm Pitch; Supplier 1: Digi-Key; Supplier Part Number 1: TMP03FT9-ND; Supplier 2: Newark; Supplier Part Number 2: 13B4830; Supplier 3: Mouser; Supplier Part Number 3: 584-TMP03FT9; Packing: Tray; Supply Voltage Range: 4.5 to 7 V; Mounting Technology: Through Hole; Code_JEDEC: TO-226-AA; ComponentLink1Description: Manufacturer URL; ComponentLink1URL: http://www.analog.com/en/index.html; ComponentLink2Description: Datasheet; ComponentLink2URL: http://www.analog.com/static/imported-files/data_sheets/TMP03_04.pdf; ComponentLink3Description: Package Specification; ComponentLink3URL: http://www.analog.com/static/imported-files/packages/PKG_PDF/TO-92(T)/T_3.pdf; ComponentLink4Description: Product URL; ComponentLink4URL: http://www.analog.com/en/mems-sensors/digital-temperature-sensors/tmp03/products/product.html
footprint ADI-T-3 (TO, Flat Index; 3 In-Line, Axial Leads; Body Dia. 5.1mm; Leads 0.48 x 0.48 mm (max))
pins: 1 DOUT (oc), 2 V+ (power), 3 GND (power)

## TMP03FT9Z
designator U?
Serial Digital Output Thermometers, 4.5 to 7 V Supply, Industrial, 3-pin TO92 (T-3), Tray; Manufacturer: Analog Devices; PartNumber: TMP03FT9Z; DatasheetVersion: Rev. A; PackageVersion: 042208-A, 04/2008; PackageReference: T-3; PackageDescription: 3-Pin Plastic Header-Style Package, 1.27 mm Pitch; Supplier 1: Digi-Key; Supplier Part Number 1: TMP03FT9Z-ND; Supplier 2: Farnell; Supplier Part Number 2: 2305761; Supplier 3: Newark; Supplier Part Number 3: 28M4413; Supplier 4: Mouser; Supplier Part Number 4: 584-TMP03FT9Z; Packing: Tray; Supply Voltage Range: 4.5 to 7 V; Mounting Technology: Through Hole; Code_JEDEC: TO-226-AA; ComponentLink1Description: Manufacturer URL; ComponentLink1URL: http://www.analog.com/en/index.html; ComponentLink2Description: Datasheet; ComponentLink2URL: http://www.analog.com/static/imported-files/data_sheets/TMP03_04.pdf; ComponentLink3Description: Package Specification; ComponentLink3URL: http://www.analog.com/static/imported-files/packages/PKG_PDF/TO-92(T)/T_3.pdf; ComponentLink4Description: Product URL; ComponentLink4URL: http://www.analog.com/en/mems-sensors/digital-temperature-sensors/tmp03/products/product.html
footprint ADI-T-3 (TO, Flat Index; 3 In-Line, Axial Leads; Body Dia. 5.1mm; Leads 0.48 x 0.48 mm (max))
pins: 1 DOUT (oc), 2 V+ (power), 3 GND (power)

## TMP04FS
designator U?
Serial Digital Output Thermometers, 4.5 to 7 V Supply, 8-pin SOIC (R-8), Tube; Manufacturer: Analog Devices; PartNumber: TMP04FS; DatasheetVersion: Rev. A; PackageVersion: 060506-A, 06/2006; PackageReference: R-8; PackageDescription: 8-Pin Standard Small Outline Package, Body 4.9 x 3.9 mm, Pitch 1.27 mm; Supplier 1: Digi-Key; Supplier Part Number 1: TMP04FS-ND; Supplier 2: Mouser; Supplier Part Number 2: 584-TMP04FS; Packing: Tube; Supply Voltage Range: 4.5 to 7 V; Mounting Technology: Surface Mount; Code_JEDEC: MS-012-AA; ComponentLink1Description: Manufacturer URL; ComponentLink1URL: http://www.analog.com/en/index.html; ComponentLink2Description: Datasheet; ComponentLink2URL: http://www.analog.com/static/imported-files/data_sheets/TMP03_04.pdf; ComponentLink3Description: Package Specification; ComponentLink3URL: http://www.analog.com/static/imported-files/packages/PKG_PDF/SOIC_Narrow%20(R)/R_8.pdf; ComponentLink4Description: Product URL; ComponentLink4URL: http://www.analog.com/en/mems-sensors/digital-temperature-sensors/tmp04/products/product.html
footprint ADI-R-8_N (SOIC, 8-Leads, Body 4.9x3.9mm, Pitch 1.27mm, IPC Medium Density)
footprint ADI-R-8_L (SOIC, 8-Leads, Body 4.9x3.9mm, Pitch 1.27mm, IPC High Density)
footprint ADI-R-8_M (SOIC, 8-Leads, Body 4.9x3.9mm, Pitch 1.27mm, IPC Low Density)
part A pins: 1 DOUT (out), 2 V+ (power), 3 GND (power)
part B pins: 4 NC "NO CONNECT", 5 NC "NO CONNECT", 6 NC "NO CONNECT", 7 NC "NO CONNECT", 8 NC "NO CONNECT"

## TMP04FS-REEL
designator U?
Serial Digital Output Thermometers, 4.5 to 7 V Supply, 8-pin SOIC (R-8), Reel; Manufacturer: Analog Devices; PartNumber: TMP04FS-REEL; DatasheetVersion: Rev. A; PackageVersion: 060506-A, 06/2006; PackageReference: R-8; PackageDescription: 8-Pin Standard Small Outline Package, Body 4.9 x 3.9 mm, Pitch 1.27 mm; Supplier 1: Digi-Key; Supplier Part Number 1: TMP04FS-REELTR-ND; Supplier 2: Digi-Key; Supplier Part Number 2: TMP04FS-REELCT-ND; Supplier 3: Digi-Key; Supplier Part Number 3: TMP04FS-REELDKR-ND; Supplier 4: Mouser; Supplier Part Number 4: 584-TMP04FS-R; Packing: Reel; Supply Voltage Range: 4.5 to 7 V; Mounting Technology: Surface Mount; Code_JEDEC: MS-012-AA; ComponentLink1Description: Manufacturer URL; ComponentLink1URL: http://www.analog.com/en/index.html; ComponentLink2Description: Datasheet; ComponentLink2URL: http://www.analog.com/static/imported-files/data_sheets/TMP03_04.pdf; ComponentLink3Description: Package Specification; ComponentLink3URL: http://www.analog.com/static/imported-files/packages/PKG_PDF/SOIC_Narrow%20(R)/R_8.pdf; ComponentLink4Description: Product URL; ComponentLink4URL: http://www.analog.com/en/mems-sensors/digital-temperature-sensors/tmp04/products/product.html
footprint ADI-R-8_N (SOIC, 8-Leads, Body 4.9x3.9mm, Pitch 1.27mm, IPC Medium Density)
footprint ADI-R-8_L (SOIC, 8-Leads, Body 4.9x3.9mm, Pitch 1.27mm, IPC High Density)
footprint ADI-R-8_M (SOIC, 8-Leads, Body 4.9x3.9mm, Pitch 1.27mm, IPC Low Density)
part A pins: 1 DOUT (out), 2 V+ (power), 3 GND (power)
part B pins: 4 NC "NO CONNECT", 5 NC "NO CONNECT", 6 NC "NO CONNECT", 7 NC "NO CONNECT", 8 NC "NO CONNECT"

## TMP04FSZ
designator U?
Serial Digital Output Thermometers, 4.5 to 7 V Supply, 8-pin SOIC (R-8), Tube; Manufacturer: Analog Devices; PartNumber: TMP04FSZ; DatasheetVersion: Rev. A; PackageVersion: 060506-A, 06/2006; PackageReference: R-8; PackageDescription: 8-Pin Standard Small Outline Package, Body 4.9 x 3.9 mm, Pitch 1.27 mm; Supplier 1: Digi-Key; Supplier Part Number 1: TMP04FSZ-ND; Supplier 2: Farnell; Supplier Part Number 2: 1319535; Supplier 3: Newark; Supplier Part Number 3: 19M9011; Supplier 4: Mouser; Supplier Part Number 4: 584-TMP04FSZ; Packing: Tube; Supply Voltage Range: 4.5 to 7 V; Mounting Technology: Surface Mount; Code_JEDEC: MS-012-AA; ComponentLink1Description: Manufacturer URL; ComponentLink1URL: http://www.analog.com/en/index.html; ComponentLink2Description: Datasheet; ComponentLink2URL: http://www.analog.com/static/imported-files/data_sheets/TMP03_04.pdf; ComponentLink3Description: Package Specification; ComponentLink3URL: http://www.analog.com/static/imported-files/packages/PKG_PDF/SOIC_Narrow%20(R)/R_8.pdf; ComponentLink4Description: Product URL; ComponentLink4URL: http://www.analog.com/en/mems-sensors/digital-temperature-sensors/tmp04/products/product.html
footprint ADI-R-8_N (SOIC, 8-Leads, Body 4.9x3.9mm, Pitch 1.27mm, IPC Medium Density)
footprint ADI-R-8_L (SOIC, 8-Leads, Body 4.9x3.9mm, Pitch 1.27mm, IPC High Density)
footprint ADI-R-8_M (SOIC, 8-Leads, Body 4.9x3.9mm, Pitch 1.27mm, IPC Low Density)
part A pins: 1 DOUT (out), 2 V+ (power), 3 GND (power)
part B pins: 4 NC "NO CONNECT", 5 NC "NO CONNECT", 6 NC "NO CONNECT", 7 NC "NO CONNECT", 8 NC "NO CONNECT"

## TMP04FSZ-REEL
designator U?
Serial Digital Output Thermometers, 4.5 to 7 V Supply, 8-pin SOIC (R-8), Reel; Manufacturer: Analog Devices; PartNumber: TMP04FSZ-REEL; DatasheetVersion: Rev. A; PackageVersion: 060506-A, 06/2006; PackageReference: R-8; PackageDescription: 8-Pin Standard Small Outline Package, Body 4.9 x 3.9 mm, Pitch 1.27 mm; Supplier 1: Digi-Key; Supplier Part Number 1: TMP04FSZ-REELTR-ND; Supplier 2: Digi-Key; Supplier Part Number 2: TMP04FSZ-REELCT-ND; Supplier 3: Newark; Supplier Part Number 3: 59K9135; Supplier 4: Mouser; Supplier Part Number 4: 584-TMP04FSZ-R; Packing: Reel; Supply Voltage Range: 4.5 to 7 V; Mounting Technology: Surface Mount; Code_JEDEC: MS-012-AA; ComponentLink1Description: Manufacturer URL; ComponentLink1URL: http://www.analog.com/en/index.html; ComponentLink2Description: Datasheet; ComponentLink2URL: http://www.analog.com/static/imported-files/data_sheets/TMP03_04.pdf; ComponentLink3Description: Package Specification; ComponentLink3URL: http://www.analog.com/static/imported-files/packages/PKG_PDF/SOIC_Narrow%20(R)/R_8.pdf; ComponentLink4Description: Product URL; ComponentLink4URL: http://www.analog.com/en/mems-sensors/digital-temperature-sensors/tmp04/products/product.html
footprint ADI-R-8_N (SOIC, 8-Leads, Body 4.9x3.9mm, Pitch 1.27mm, IPC Medium Density)
footprint ADI-R-8_L (SOIC, 8-Leads, Body 4.9x3.9mm, Pitch 1.27mm, IPC High Density)
footprint ADI-R-8_M (SOIC, 8-Leads, Body 4.9x3.9mm, Pitch 1.27mm, IPC Low Density)
part A pins: 1 DOUT (out), 2 V+ (power), 3 GND (power)
part B pins: 4 NC "NO CONNECT", 5 NC "NO CONNECT", 6 NC "NO CONNECT", 7 NC "NO CONNECT", 8 NC "NO CONNECT"